# EAGLE library part MOTADORA2014-B (library motadora2011)
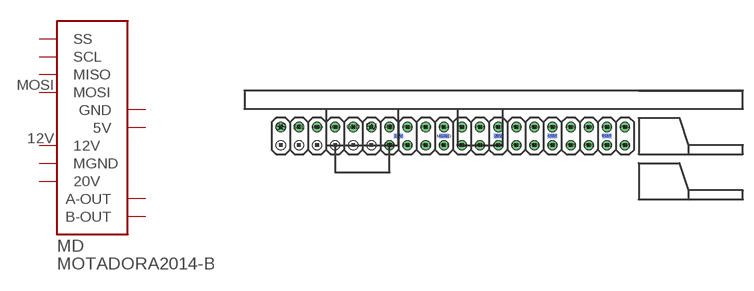
[diagram p2: symbol with the pads of MOTADORA2014-B; footprint MOTADORA2014-B]

Designator prefix MD

## MOTADORA2014-B  [MOTADORA2014-B]
5V  5V  pwr
12V  12V  pwr
20V  20V  pwr
A-OUT  A-OUT  out
B-OUT  B-OUT  out
GND  GND  pwr
MGND  MGND  pwr
MISO  MISO  in
MOSI  MOSI  in
SCL  SCL  in
SS  SS  in

## Footprint MOTADORA2014-B (pad centres in mm)
drill 0.8: 5V -15.24,1.27; GND -17.78,1.27; MISO -22.86,1.27; MOSI -20.32,1.27; P$8 -12.7,-1.27; P$9 -12.7,1.27; P$10 -10.16,1.27; P$11 -10.16,-1.27; P$12 -7.62,-1.27; P$13 -7.62,1.27; P$14 -5.08,1.27; P$15 -5.08,-1.27; P$16 -2.54,-1.27; P$17 -2.54,1.27; P$18 0,1.27; P$19 2.54,1.27; P$20 2.54,-1.27; P$21 0,-1.27; P$22 5.08,-1.27; P$23 5.08,1.27; P$24 7.62,1.27; P$25 7.62,-1.27; P$26 10.16,1.27; P$27 10.16,-1.27; P$28 12.7,-1.27; P$29 12.7,1.27; P$30 15.24,1.27; P$31 15.24,-1.27; P$32 17.78,-1.27; P$33 17.78,1.27; P$34 20.32,1.27; P$35 20.32,-1.27; SCL -25.4,1.27; SS -27.94,1.27
smd 1.27 x 0.635 bottom: 12V -11.43,0; 20V 2.54,0; A-OUT 10.16,0; B-OUT 17.78,0; MGND -5.08,0